# EAGLE library part MSP430F11*2 (library msp430)
Mixed Signal Microcontroller 10bit ADC, no LCD
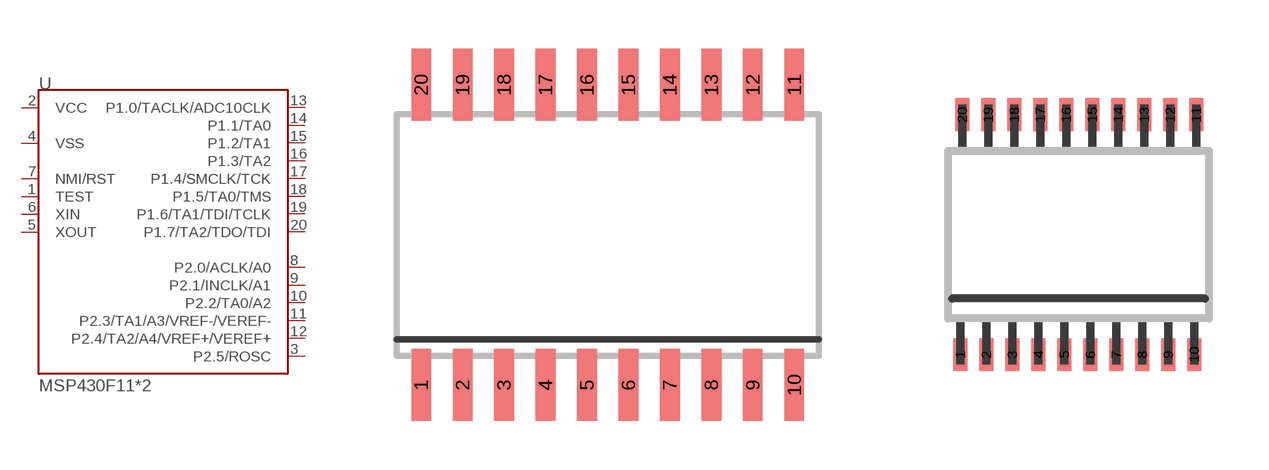
[diagram p1: symbol with the pads of SO-20DW; footprints SO-20DW, SO-20(PW)]

Designator prefix U

## MSP430F1122DW, MSP430F1132DW  [SO-20DW]
1  TEST
2  VCC  pwr
3  P2.5/ROSC
4  VSS  pwr
5  XOUT  pas
6  XIN  pas
7  NMI/RST  in
8  P2.0/ACLK/A0
9  P2.1/INCLK/A1
10  P2.2/TA0/A2
11  P2.3/TA1/A3/VREF-/VEREF-
12  P2.4/TA2/A4/VREF+/VEREF+
13  P1.0/TACLK/ADC10CLK
14  P1.1/TA0
15  P1.2/TA1
16  P1.3/TA2
17  P1.4/SMCLK/TCK
18  P1.5/TA0/TMS
19  P1.6/TA1/TDI/TCLK
20  P1.7/TA2/TDO/TDI

## MSP430F1122PW, MSP430F1132PW  [SO-20(PW)]
Pads as for SO-20DW

## MSP430F1122RHB, MSP430F1132RHB  [S-PQFP-N32(RHB)]
1  VSS  pwr
2  XOUT  pas
3  XIN  pas
5  NMI/RST  in
6  P2.0/ACLK/A0
7  P2.1/INCLK/A1
8  P2.2/TA0/A2
18  P2.3/TA1/A3/VREF-/VEREF-
19  P2.4/TA2/A4/VREF+/VEREF+
21  P1.0/TACLK/ADC10CLK
22  P1.1/TA0
23  P1.2/TA1
24  P1.3/TA2
25  P1.4/SMCLK/TCK
26  P1.5/TA0/TMS
27  P1.6/TA1/TDI/TCLK
28  P1.7/TA2/TDO/TDI
29  TEST
30  VCC  pwr
32  P2.5/ROSC

## Footprint SO-20DW (pad centres in mm)
smd 0.6 x 2.2: 1 -5.715,-4.6; 2 -4.445,-4.6; 3 -3.175,-4.6; 4 -1.905,-4.6; 5 -0.635,-4.6; 6 0.635,-4.6; 7 1.905,-4.6; 8 3.175,-4.6; 9 4.445,-4.6; 10 5.715,-4.6; 11 5.715,4.6; 12 4.445,4.6; 13 3.175,4.6; 14 1.905,4.6; 15 0.635,4.6; 16 -0.635,4.6; 17 -1.905,4.6; 18 -3.175,4.6; 19 -4.445,4.6; 20 -5.715,4.6

## Footprint SO-20(PW) (pad centres in mm)
smd 0.35 x 0.813: 1 -2.95,-3; 2 -2.3,-3; 3 -1.65,-3; 4 -1,-3; 5 -0.35,-3; 6 0.3,-3; 7 0.95,-3; 8 1.6,-3; 9 2.25,-3; 10 2.9,-3; 11 2.95,3; 12 2.3,3; 13 1.65,3; 14 1,3; 15 0.35,3; 16 -0.3,3; 17 -0.95,3; 18 -1.6,3; 19 -2.25,3; 20 -2.9,3

## Footprint S-PQFP-N32(RHB) (pad centres in mm)
smd 0.8 x 0.3: 1 -2.5,1.75; 2 -2.5,1.25; 3 -2.5,0.75; 4 -2.5,0.25; 5 -2.5,-0.25; 6 -2.5,-0.75; 7 -2.5,-1.25; 8 -2.5,-1.75; 17 2.5,-1.75; 18 2.5,-1.25; 19 2.5,-0.75; 20 2.5,-0.25; 21 2.5,0.25; 22 2.5,0.75; 23 2.5,1.25; 24 2.5,1.75
smd 0.3 x 0.8: 9 -1.75,-2.5; 10 -1.25,-2.5; 11 -0.75,-2.5; 12 -0.25,-2.5; 13 0.25,-2.5; 14 0.75,-2.5; 15 1.25,-2.5; 16 1.75,-2.5; 25 1.75,2.5; 26 1.25,2.5; 27 0.75,2.5; 28 0.25,2.5; 29 -0.25,2.5; 30 -0.75,2.5; 31 -1.25,2.5; 32 -1.75,2.5